# Altium footprint library special.PCBLIB: 77 footprints (part 3 of 5)
Each footprint in its own frame and in the unit in brackets; x right, y up, seen from the top. Pads: shape width x height; smd on the part's side, far side on the other; paste and mask are expansions set on the pad; w line width, h text height; cw(c..) or ccw(c..) is an arc to the next point about the centre after c.
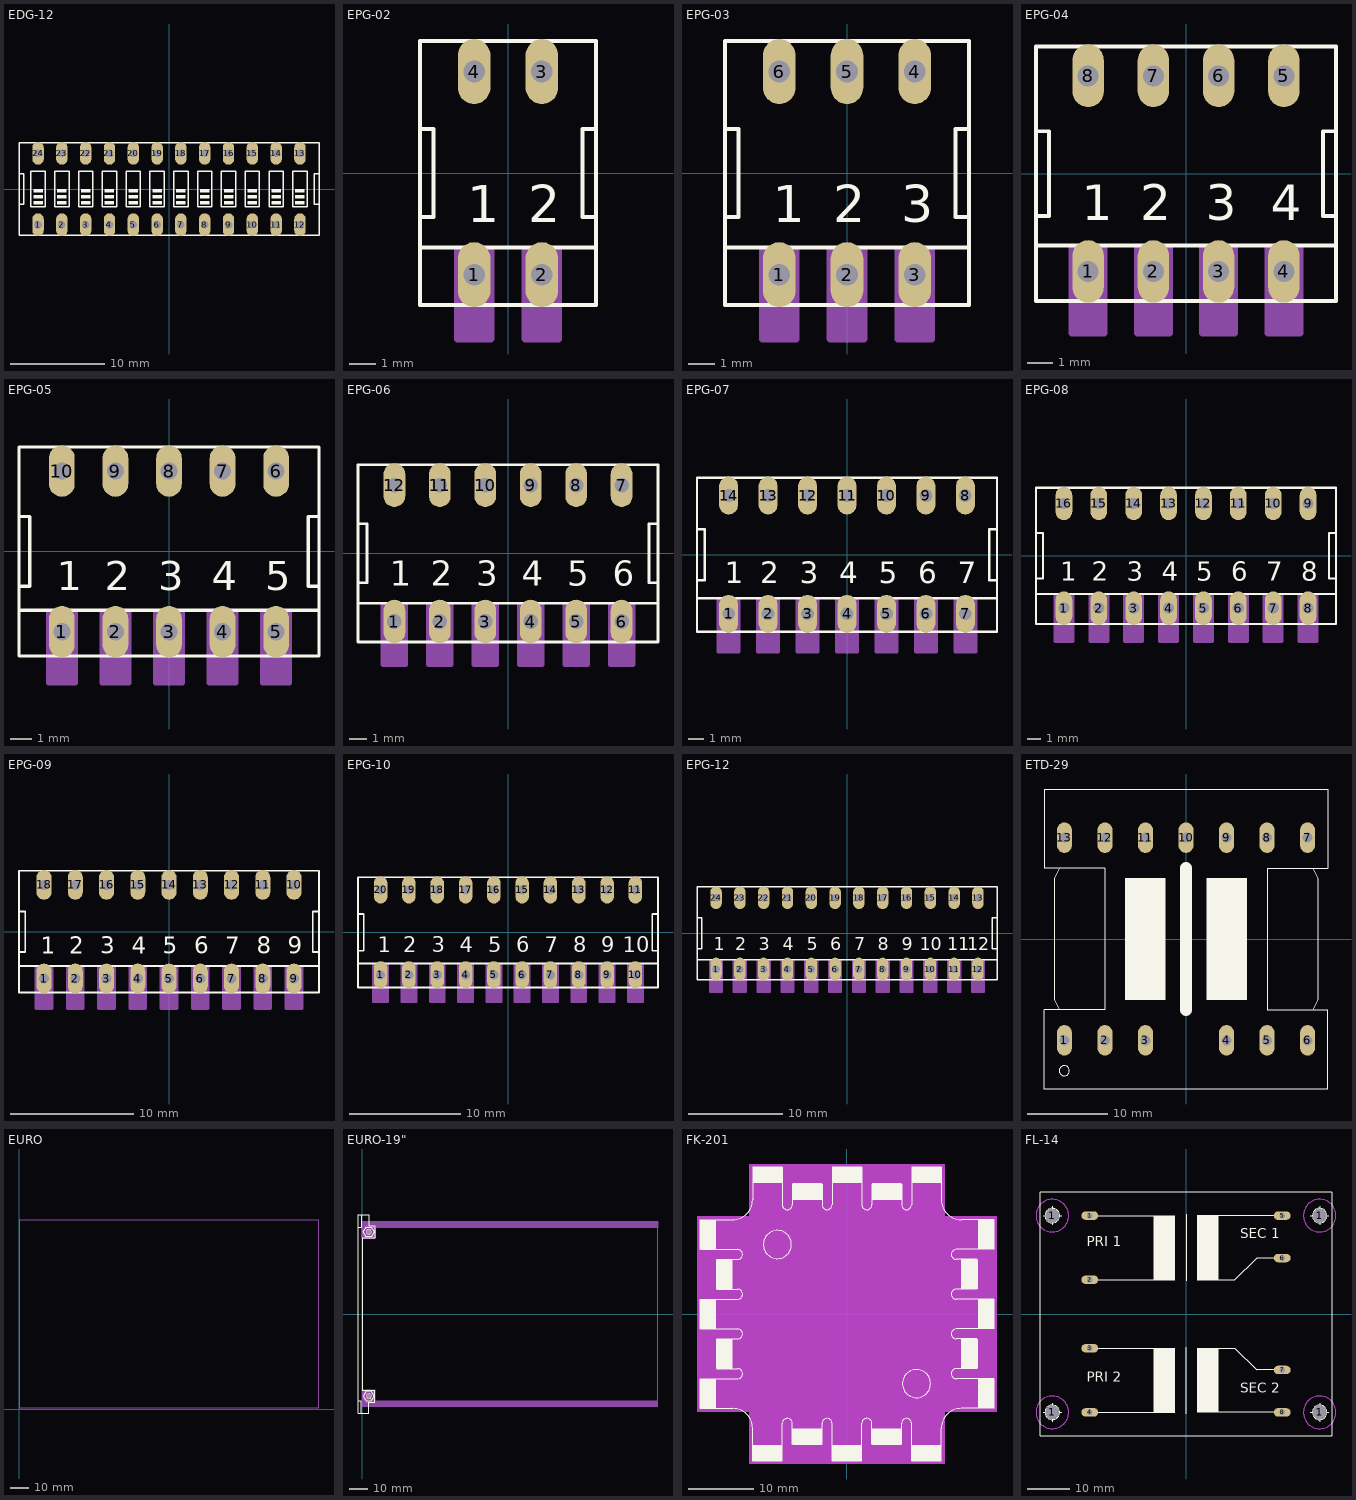
[diagram p2: the footprints below, top view; thin cyan lines are the x and y axes]

## EDG-12 [mil]
pads (24):
  oval 48x96 hole 32: 1(-550,-150) 2(-450,-150) 3(-350,-150) 4(-250,-150) 5(-150,-150) 6(-50,-150) 7(50,-150) 8(150,-150) 9(250,-150) 10(350,-150) 11(450,-150) 12(550,-150) 13(550,150) 14(450,150) 15(350,150) 16(250,150) 17(150,150) 18(50,150) 19(-50,150) 20(-150,150) 21(-250,150) 22(-350,150) 23(-450,150) 24(-550,150)
Top Overlay:
  rectangle: 530,-15 570,0
  rectangle: 530,-40 570,-25
  rectangle: 530,-65 570,-50
  rectangle: 430,-15 470,0
  rectangle: 430,-40 470,-25
  rectangle: 430,-65 470,-50
  rectangle: 330,-15 370,0
  rectangle: 330,-40 370,-25
  rectangle: 330,-65 370,-50
  rectangle: 230,-15 270,0
  rectangle: 230,-40 270,-25
  rectangle: 230,-65 270,-50
  rectangle: 130,-15 170,0
  rectangle: 130,-40 170,-25
  rectangle: 130,-65 170,-50
  rectangle: 30,-15 70,0
  rectangle: 30,-40 70,-25
  rectangle: 30,-65 70,-50
  rectangle: -70,-15 -30,0
  rectangle: -70,-40 -30,-25
  rectangle: -70,-65 -30,-50
  rectangle: -170,-15 -130,0
  rectangle: -170,-40 -130,-25
  rectangle: -170,-65 -130,-50
  rectangle: -270,-15 -230,0
  rectangle: -270,-40 -230,-25
  rectangle: -270,-65 -230,-50
  rectangle: -370,-15 -330,0
  rectangle: -370,-40 -330,-25
  rectangle: -370,-65 -330,-50
  rectangle: -470,-15 -430,0
  rectangle: -470,-40 -430,-25
  rectangle: -470,-65 -430,-50
  rectangle: -570,-15 -530,0
  rectangle: -570,-40 -530,-25
  rectangle: -570,-65 -530,-50
  lines w6: -630,-65 -610,-65 -610,65 -630,65 ; -630,-65 -630,-195 630,-195 630,-65 ; -630,-65 -630,65 ; -630,65 -630,195 630,195 630,65 ; 630,-65 610,-65 610,65 630,65 ; 630,-65 630,65 ; -580,-75 -580,75 -520,75 -520,-75 -580,-75 ; -480,-75 -480,75 -420,75 -420,-75 -480,-75 ; -380,-75 -380,75 -320,75 -320,-75 -380,-75 ; -280,-75 -280,75 -220,75 -220,-75 -280,-75 ; -180,-75 -180,75 -120,75 -120,-75 -180,-75 ; -80,-75 -80,75 -20,75 -20,-75 -80,-75 ; 20,-75 20,75 80,75 80,-75 20,-75 ; 120,-75 120,75 180,75 180,-75 120,-75 ; 220,-75 220,75 280,75 280,-75 220,-75 ; 320,-75 320,75 380,75 380,-75 320,-75 ; 420,-75 420,75 480,75 480,-75 420,-75 ; 520,-75 520,75 580,75 580,-75 520,-75
Courtyard Bottom:
  text "1" at -560,-165 h93
  text "ON" at -600,100 h93
  text "2" at -470,-165 h93
  text "3" at -370,-165 h93
  text "4" at -270,-165 h93
  text "5" at -170,-165 h93
  text "6" at -70,-165 h93
  text "7" at 30,-165 h93
  text "8" at 130,-165 h93
  text "9" at 230,-165 h93
  text "10" at 305,-165 h93
  text "11" at 420,-165 h93
  text "12" at 505,-165 h93
  text "EDG" at 450,100 h93

## EPG-02 [mil]
pads (4):
  oval 48x96 hole 32: 1(-50,-150) 2(50,-150) 3(50,150) 4(-50,150)
Top Overlay:
  lines w6: -130,-110 -130,-65 ; -130,-110 130,-110 ; -130,-110 -130,-195 130,-195 130,-110 ; -130,-65 -110,-65 -110,65 -130,65 ; -130,-65 -130,65 ; -130,65 -130,195 130,195 130,65 ; 130,-110 130,-65 ; 130,-65 110,-65 110,65 130,65 ; 130,-65 130,65
  text "1" at -60,-90 h93
  text "2" at 30,-90 h93
Courtyard Bottom:
  rectangle: -80,-245 -20,-110
  rectangle: 20,-245 80,-110
  lines w10: -75,-245 -25,-245 ; 25,-245 75,-245
  text "EPG" at -50,100 h93

## EPG-03 [mil]
pads (6):
  oval 48x96 hole 32: 1(-100,-150) 2(0,-150) 3(100,-150) 4(100,150) 5(0,150) 6(-100,150)
Top Overlay:
  lines w6: -180,-110 -180,-65 ; -180,-110 180,-110 ; -180,-110 -180,-195 180,-195 180,-110 ; -180,-65 -160,-65 -160,65 -180,65 ; -180,-65 -180,65 ; -180,65 -180,195 180,195 180,65 ; 180,-110 180,-65 ; 180,-65 160,-65 160,65 180,65 ; 180,-65 180,65
  text "1" at -110,-90 h93
  text "2" at -20,-90 h93
  text "3" at 80,-90 h93
Courtyard Bottom:
  rectangle: -130,-245 -70,-110
  rectangle: -30,-245 30,-110
  rectangle: 70,-245 130,-110
  lines w10: -125,-245 -75,-245 ; -25,-245 25,-245 ; 75,-245 125,-245
  text "EPG" at 0,100 h93

## EPG-04 [mil]
pads (8):
  oval 48x96 hole 32: 1(-150,-150) 2(-50,-150) 3(50,-150) 4(150,-150) 5(150,150) 6(50,150) 7(-50,150) 8(-150,150)
Top Overlay:
  lines w6: -230,-110 -230,-65 ; -230,-110 230,-110 ; -230,-110 -230,-195 230,-195 230,-110 ; -230,-65 -210,-65 -210,65 -230,65 ; -230,-65 -230,65 ; -230,65 -230,195 230,195 230,65 ; 230,-110 230,-65 ; 230,-65 210,-65 210,65 230,65 ; 230,-65 230,65
  text "1" at -160,-90 h93
  text "2" at -70,-90 h93
  text "3" at 30,-90 h93
  text "4" at 130,-90 h93
Courtyard Bottom:
  rectangle: -180,-245 -120,-110
  rectangle: -80,-245 -20,-110
  rectangle: 20,-245 80,-110
  rectangle: 120,-245 180,-110
  lines w10: -175,-245 -125,-245 ; -75,-245 -25,-245 ; 25,-245 75,-245 ; 125,-245 175,-245
  text "EPG" at 50,100 h93

## EPG-05 [mil]
pads (10):
  oval 48x96 hole 32: 1(-200,-150) 2(-100,-150) 3(0,-150) 4(100,-150) 5(200,-150) 6(200,150) 7(100,150) 8(0,150) 9(-100,150) 10(-200,150)
Top Overlay:
  lines w6: -280,-110 -280,-65 ; -280,-110 280,-110 ; -280,-110 -280,-195 280,-195 280,-110 ; -280,-65 -260,-65 -260,65 -280,65 ; -280,-65 -280,65 ; -280,65 -280,195 280,195 280,65 ; 280,-110 280,-65 ; 280,-65 260,-65 260,65 280,65 ; 280,-65 280,65
  text "1" at -210,-90 h93
  text "2" at -120,-90 h93
  text "3" at -20,-90 h93
  text "4" at 80,-90 h93
  text "5" at 180,-90 h93
Courtyard Bottom:
  rectangle: -230,-245 -170,-110
  rectangle: -130,-245 -70,-110
  rectangle: -30,-245 30,-110
  rectangle: 70,-245 130,-110
  rectangle: 170,-245 230,-110
  lines w10: -225,-245 -175,-245 ; -125,-245 -75,-245 ; -25,-245 25,-245 ; 75,-245 125,-245 ; 175,-245 225,-245
  text "EPG" at 100,100 h93

## EPG-06 [mil]
pads (12):
  oval 48x96 hole 32: 1(-250,-150) 2(-150,-150) 3(-50,-150) 4(50,-150) 5(150,-150) 6(250,-150) 7(250,150) 8(150,150) 9(50,150) 10(-50,150) 11(-150,150) 12(-250,150)
Top Overlay:
  lines w6: -330,-110 -330,-65 ; -330,-110 330,-110 ; -330,-110 -330,-195 330,-195 330,-110 ; -330,-65 -310,-65 -310,65 -330,65 ; -330,-65 -330,65 ; -330,65 -330,195 330,195 330,65 ; 330,-110 330,-65 ; 330,-65 310,-65 310,65 330,65 ; 330,-65 330,65
  text "1" at -260,-90 h93
  text "2" at -170,-90 h93
  text "3" at -70,-90 h93
  text "4" at 30,-90 h93
  text "5" at 130,-90 h93
  text "6" at 230,-90 h93
Courtyard Bottom:
  rectangle: -280,-245 -220,-110
  rectangle: -180,-245 -120,-110
  rectangle: -80,-245 -20,-110
  rectangle: 20,-245 80,-110
  rectangle: 120,-245 180,-110
  rectangle: 220,-245 280,-110
  lines w10: -275,-245 -225,-245 ; -175,-245 -125,-245 ; -75,-245 -25,-245 ; 25,-245 75,-245 ; 125,-245 175,-245 ; 225,-245 275,-245
  text "EPG" at 150,100 h93

## EPG-07 [mil]
pads (14):
  oval 48x96 hole 32: 1(-300,-150) 2(-200,-150) 3(-100,-150) 4(0,-150) 5(100,-150) 6(200,-150) 7(300,-150) 8(300,150) 9(200,150) 10(100,150) 11(0,150) 12(-100,150) 13(-200,150) 14(-300,150)
Top Overlay:
  lines w6: -380,-110 -380,-65 ; -380,-110 380,-110 ; -380,-110 -380,-195 380,-195 380,-110 ; -380,-65 -360,-65 -360,65 -380,65 ; -380,-65 -380,65 ; -380,65 -380,195 380,195 380,65 ; 380,-110 380,-65 ; 380,-65 360,-65 360,65 380,65 ; 380,-65 380,65
  text "1" at -310,-90 h93
  text "2" at -220,-90 h93
  text "3" at -120,-90 h93
  text "4" at -20,-90 h93
  text "5" at 80,-90 h93
  text "6" at 180,-90 h93
  text "7" at 280,-90 h93
Courtyard Bottom:
  rectangle: -330,-245 -270,-110
  rectangle: -230,-245 -170,-110
  rectangle: -130,-245 -70,-110
  rectangle: -30,-245 30,-110
  rectangle: 70,-245 130,-110
  rectangle: 170,-245 230,-110
  rectangle: 270,-245 330,-110
  lines w10: -325,-245 -275,-245 ; -225,-245 -175,-245 ; -125,-245 -75,-245 ; -25,-245 25,-245 ; 75,-245 125,-245 ; 175,-245 225,-245 ; 275,-245 325,-245
  text "EPG" at 200,100 h93

## EPG-08 [mil]
pads (16):
  oval 48x96 hole 32: 1(-350,-150) 2(-250,-150) 3(-150,-150) 4(-50,-150) 5(50,-150) 6(150,-150) 7(250,-150) 8(350,-150) 9(350,150) 10(250,150) 11(150,150) 12(50,150) 13(-50,150) 14(-150,150) 15(-250,150) 16(-350,150)
Top Overlay:
  lines w6: -430,-110 -430,-65 ; -430,-110 430,-110 ; -430,-110 -430,-195 430,-195 430,-110 ; -430,-65 -410,-65 -410,65 -430,65 ; -430,-65 -430,65 ; -430,65 -430,195 430,195 430,65 ; 430,-110 430,-65 ; 430,-65 410,-65 410,65 430,65 ; 430,-65 430,65
  text "1" at -360,-90 h93
  text "2" at -270,-90 h93
  text "3" at -170,-90 h93
  text "4" at -70,-90 h93
  text "5" at 30,-90 h93
  text "6" at 130,-90 h93
  text "7" at 230,-90 h93
  text "8" at 330,-90 h93
Courtyard Bottom:
  rectangle: -380,-245 -320,-110
  rectangle: -280,-245 -220,-110
  rectangle: -180,-245 -120,-110
  rectangle: -80,-245 -20,-110
  rectangle: 20,-245 80,-110
  rectangle: 120,-245 180,-110
  rectangle: 220,-245 280,-110
  rectangle: 320,-245 380,-110
  lines w10: -375,-245 -325,-245 ; -275,-245 -225,-245 ; -175,-245 -125,-245 ; -75,-245 -25,-245 ; 25,-245 75,-245 ; 125,-245 175,-245 ; 225,-245 275,-245 ; 325,-245 375,-245
  text "EPG" at 250,100 h93

## EPG-09 [mil]
pads (18):
  oval 48x96 hole 32: 1(-400,-150) 2(-300,-150) 3(-200,-150) 4(-100,-150) 5(0,-150) 6(100,-150) 7(200,-150) 8(300,-150) 9(400,-150) 10(400,150) 11(300,150) 12(200,150) 13(100,150) 14(0,150) 15(-100,150) 16(-200,150) 17(-300,150) 18(-400,150)
Top Overlay:
  lines w6: -480,-110 -480,-65 ; -480,-110 480,-110 ; -480,-110 -480,-195 480,-195 480,-110 ; -480,-65 -460,-65 -460,65 -480,65 ; -480,-65 -480,65 ; -480,65 -480,195 480,195 480,65 ; 480,-110 480,-65 ; 480,-65 460,-65 460,65 480,65 ; 480,-65 480,65
  text "1" at -410,-90 h93
  text "2" at -320,-90 h93
  text "3" at -220,-90 h93
  text "4" at -120,-90 h93
  text "5" at -20,-90 h93
  text "6" at 80,-90 h93
  text "7" at 180,-90 h93
  text "8" at 280,-90 h93
  text "9" at 380,-90 h93
Courtyard Bottom:
  rectangle: -430,-245 -370,-110
  rectangle: -330,-245 -270,-110
  rectangle: -230,-245 -170,-110
  rectangle: -130,-245 -70,-110
  rectangle: -30,-245 30,-110
  rectangle: 70,-245 130,-110
  rectangle: 170,-245 230,-110
  rectangle: 270,-245 330,-110
  rectangle: 370,-245 430,-110
  lines w10: -425,-245 -375,-245 ; -325,-245 -275,-245 ; -225,-245 -175,-245 ; -125,-245 -75,-245 ; -25,-245 25,-245 ; 75,-245 125,-245 ; 175,-245 225,-245 ; 275,-245 325,-245 ; 375,-245 425,-245
  text "EPG" at 300,100 h93

## EPG-10 [mil]
pads (20):
  oval 48x96 hole 32: 1(-450,-150) 2(-350,-150) 3(-250,-150) 4(-150,-150) 5(-50,-150) 6(50,-150) 7(150,-150) 8(250,-150) 9(350,-150) 10(450,-150) 11(450,150) 12(350,150) 13(250,150) 14(150,150) 15(50,150) 16(-50,150) 17(-150,150) 18(-250,150) 19(-350,150) 20(-450,150)
Top Overlay:
  lines w6: -530,-110 -530,-65 ; -530,-110 530,-110 ; -530,-110 -530,-195 530,-195 530,-110 ; -530,-65 -510,-65 -510,65 -530,65 ; -530,-65 -530,65 ; -530,65 -530,195 530,195 530,65 ; 530,-110 530,-65 ; 530,-65 510,-65 510,65 530,65 ; 530,-65 530,65
  text "1" at -460,-90 h93
  text "2" at -370,-90 h93
  text "3" at -270,-90 h93
  text "4" at -170,-90 h93
  text "5" at -70,-90 h93
  text "6" at 30,-90 h93
  text "7" at 130,-90 h93
  text "8" at 230,-90 h93
  text "9" at 330,-90 h93
  text "10" at 405,-90 h93
Courtyard Bottom:
  rectangle: -480,-245 -420,-110
  rectangle: -380,-245 -320,-110
  rectangle: -280,-245 -220,-110
  rectangle: -180,-245 -120,-110
  rectangle: -80,-245 -20,-110
  rectangle: 20,-245 80,-110
  rectangle: 120,-245 180,-110
  rectangle: 220,-245 280,-110
  rectangle: 320,-245 380,-110
  rectangle: 420,-245 480,-110
  lines w10: -475,-245 -425,-245 ; -375,-245 -325,-245 ; -275,-245 -225,-245 ; -175,-245 -125,-245 ; -75,-245 -25,-245 ; 25,-245 75,-245 ; 125,-245 175,-245 ; 225,-245 275,-245 ; 325,-245 375,-245 ; 425,-245 475,-245
  text "EPG" at 350,100 h93

## EPG-12 [mil]
pads (24):
  oval 48x96 hole 32: 1(-550,-150) 2(-450,-150) 3(-350,-150) 4(-250,-150) 5(-150,-150) 6(-50,-150) 7(50,-150) 8(150,-150) 9(250,-150) 10(350,-150) 11(450,-150) 12(550,-150) 13(550,150) 14(450,150) 15(350,150) 16(250,150) 17(150,150) 18(50,150) 19(-50,150) 20(-150,150) 21(-250,150) 22(-350,150) 23(-450,150) 24(-550,150)
Top Overlay:
  lines w6: -630,-110 -630,-65 ; -630,-110 630,-110 ; -630,-110 -630,-195 630,-195 630,-110 ; -630,-65 -610,-65 -610,65 -630,65 ; -630,-65 -630,65 ; -630,65 -630,195 630,195 630,65 ; 630,-110 630,-65 ; 630,-65 610,-65 610,65 630,65 ; 630,-65 630,65
  text "1" at -560,-90 h93
  text "2" at -470,-90 h93
  text "3" at -370,-90 h93
  text "4" at -270,-90 h93
  text "5" at -170,-90 h93
  text "6" at -70,-90 h93
  text "7" at 30,-90 h93
  text "8" at 130,-90 h93
  text "9" at 230,-90 h93
  text "10" at 305,-90 h93
  text "11" at 420,-90 h93
  text "12" at 505,-90 h93
Courtyard Bottom:
  rectangle: -580,-245 -520,-110
  rectangle: -480,-245 -420,-110
  rectangle: -380,-245 -320,-110
  rectangle: -280,-245 -220,-110
  rectangle: -180,-245 -120,-110
  rectangle: -80,-245 -20,-110
  rectangle: 20,-245 80,-110
  rectangle: 120,-245 180,-110
  rectangle: 220,-245 280,-110
  rectangle: 320,-245 380,-110
  rectangle: 420,-245 480,-110
  rectangle: 520,-245 580,-110
  lines w10: -575,-245 -525,-245 ; -475,-245 -425,-245 ; -375,-245 -325,-245 ; -275,-245 -225,-245 ; -175,-245 -125,-245 ; -75,-245 -25,-245 ; 25,-245 75,-245 ; 125,-245 175,-245 ; 225,-245 275,-245 ; 325,-245 375,-245 ; 425,-245 475,-245 ; 525,-245 575,-245
  text "EPG" at 450,100 h93

## ETD-29 [mil]
pads (13):
  oval 75x150 hole 50: 1(-600,-500) 2(-400,-500) 3(-200,-500) 4(200,-500) 5(400,-500) 6(600,-500) 7(600,500) 8(400,500) 9(200,500) 10(0,500) 11(-200,500) 12(-400,500) 13(-600,500)
Top Overlay:
  circle w6: c-600,-650 r25
  rectangle: -300,-300 -100,300
  rectangle: 100,-300 300,300
  lines w6: -625,-350 -400,-350 -400,350 -625,350 ; -625,-350 -650,-300 -650,300 -625,350 ; -625,-350 -700,-350 -700,-740 700,-740 700,-350 625,-350 ; -625,350 -700,350 -700,740 700,740 700,350 625,350 ; 625,-350 400,-350 400,350 625,350 ; 625,-350 650,-300 650,300 625,350
  lines w60: 0,-350 0,350

## EURO [mil]
Outline:
  lines w0: 0,31 6300,31 6300,3969 0,3969 0,31
Dimensions Top:
  lines w0: 0,31 6300,31 6300,3969 0,3969 0,31

## EURO-19" [mil]
pads (2):
  round 104 hole 104: 1(140,-1750) 1(140,1750)
Top Overlay:
  circle w2: c140,1750 r50
  circle w6: c140,-1750 r50
  lines w6: -90,-1850 -90,-2110 -20,-2110 ; -90,-1850 -20,-1850 -20,-2110 ; -90,-1850 -90,1850 ; -90,1850 -20,1850 -20,2110 ; -90,1850 -90,2110 -20,2110 ; -20,-2110 140,-2110 140,-1880 265,-1880 265,-1625 0,-1625 0,1625 265,1625 265,1880 140,1880 140,2110 -20,2110 ; 25,-1750 85,-1650 195,-1650 255,-1750 195,-1850 85,-1850 25,-1750 ; 25,1750 85,1650 195,1650 255,1750 195,1850 85,1850 25,1750
Outline:
  lines w0: 0,-1969 6300,-1969 6300,1969 0,1969 0,-1969
Assembly Bottom keep-out:
  circle w0: c140,1750 r125
  circle w0: c140,-1750 r125
Mechanical 10:
  circle w0: c140,1750 r125
  circle w0: c140,-1750 r125
Dimensions Top:
  lines w0: 0,-1969 6300,-1969 6300,1969 0,1969 0,-1969
Courtyard Bottom:
  lines w2: 265,-1850 6300,-1850 ; 265,1850 6300,1850
Mech37:
  lines w1: 0,-1969 0,-1615 275,-1615 275,-1850 6300,-1850 6300,-1969 0,-1969 ; 0,1615 275,1615 275,1850 6300,1850 6300,1969 0,1969 0,1615
Mech39:
  rectangle: 0,1615 275,1970
  rectangle: 275,1850 6300,1970
  rectangle: 0,-1970 275,-1615
  rectangle: 275,-1970 6300,-1850

## FK-201 [mil]
Top Overlay:
  circle w6: c-420,420 r85
  circle w6: c420,-420 r85
  rectangle: -330,690 -150,790
  rectangle: -570,790 -390,890
  rectangle: -790,150 -690,330
  rectangle: -890,390 -790,570
  rectangle: 150,-790 330,-690
  rectangle: 390,-890 570,-790
  rectangle: 690,-330 790,-150
  rectangle: 790,-570 890,-390
  rectangle: -790,-330 -690,-150
  rectangle: -890,-570 -790,-390
  rectangle: -890,-90 -790,90
  rectangle: -330,-790 -150,-690
  rectangle: -90,-890 90,-790
  rectangle: -570,-890 -390,-790
  rectangle: 690,150 790,330
  rectangle: 790,390 890,570
  rectangle: 790,-90 890,90
  rectangle: 150,690 330,790
  rectangle: -90,790 90,890
  rectangle: 390,790 570,890
  lines w6: -885,-570 -690,-570 cw(c-690,-690) -570,-690 -570,-885 ; -885,-390 -660,-390 ccw(c-660,-360) -660,-330 -785,-330 ; -885,-90 -660,-90 cw(c-660,-120) -660,-150 -785,-150 ; -885,90 -660,90 ccw(c-660,120) -660,150 -785,150 ; -885,390 -660,390 cw(c-660,360) -660,330 -785,330 ; -885,570 -690,570 ccw(c-690,690) -570,690 -570,885 ; -390,-885 -390,-660 cw(c-360,-660) -330,-660 -330,-785 ; -390,885 -390,660 ccw(c-360,660) -330,660 -330,785 ; -150,-785 -150,-660 cw(c-120,-660) -90,-660 -90,-885 ; -150,785 -150,660 ccw(c-120,660) -90,660 -90,885 ; 90,-885 90,-660 cw(c120,-660) 150,-660 150,-785 ; 90,885 90,660 ccw(c120,660) 150,660 150,785 ; 330,-785 330,-660 cw(c360,-660) 390,-660 390,-885 ; 330,785 330,660 ccw(c360,660) 390,660 390,885 ; 570,-885 570,-690 cw(c690,-690) 690,-570 885,-570 ; 570,885 570,690 ccw(c690,690) 690,570 885,570 ; 785,-330 660,-330 ccw(c660,-360) 660,-390 885,-390 ; 785,-150 660,-150 cw(c660,-120) 660,-90 885,-90 ; 785,150 660,150 ccw(c660,120) 660,90 885,90 ; 785,330 660,330 cw(c660,360) 660,390 885,390
Assembly Top keep-out:
  rectangle: -590.55,571 591,906
  rectangle: 571,-590.55 906,591
  rectangle: -590.55,-905.51 591,-570.87
  rectangle: -905.51,-590.55 -570.87,591
  rectangle: -590.55,-590.55 591,591

## FL-14 [mil]
pads (12):
  round 126 hole 126: 1(-1230,-905) 1(-1230,905) 1(1230,-905) 1(1230,905)
  oval 156x78 hole 52: 1(-885,905) 2(-885,315) 3(-885,-315) 4(-885,-905) 5(885,905) 6(885,515) 7(885,-515) 8(885,-905)
Top Overlay:
  circle w6: c1230,905 r67
  circle w6: c1230,-905 r67
  circle w6: c-1230,-905 r67
  circle w6: c-1230,905 r67
  rectangle: 100,-905 300,-315
  rectangle: -300,-905 -100,-315
  rectangle: 100,315 300,905
  rectangle: -300,315 -100,905
  lines w6: -1315,-905 -1145,-905 ; -1315,905 -1145,905 ; -1230,-990 -1230,-820 ; -1230,820 -1230,990 ; -820,-905 -105,-905 ; -820,-315 -105,-315 ; -820,315 -105,315 ; -820,905 -105,905 ; 0,-916 0,-305 ; 0,305 0,916 ; 105,-905 820,-905 ; 105,-315 450,-315 650,-515 820,-515 ; 105,315 450,315 650,515 820,515 ; 105,905 820,905 ; 1145,-905 1315,-905 ; 1145,905 1315,905 ; 1230,-990 1230,-820 ; 1230,820 1230,990 ; -1340,-1122 1340,-1122 1340,1122 -1340,1122 -1340,-1122
  text "PRI 1" at -911,590 h155
  text "PRI 2" at -911,-656 h155
  text "SEC 1" at 500,665 h155
  text "SEC 2" at 500,-756 h155
Assembly Bottom keep-out:
  circle w0: c1230,905 r150
  circle w0: c1230,-905 r150
  circle w0: c-1230,-905 r150
  circle w0: c-1230,905 r150
Mechanical 10:
  circle w0: c1230,905 r150
  circle w0: c1230,-905 r150
  circle w0: c-1230,-905 r150
  circle w0: c-1230,905 r150